# EAGLE library part LT1121-3.3 (library LT1121-3.3)
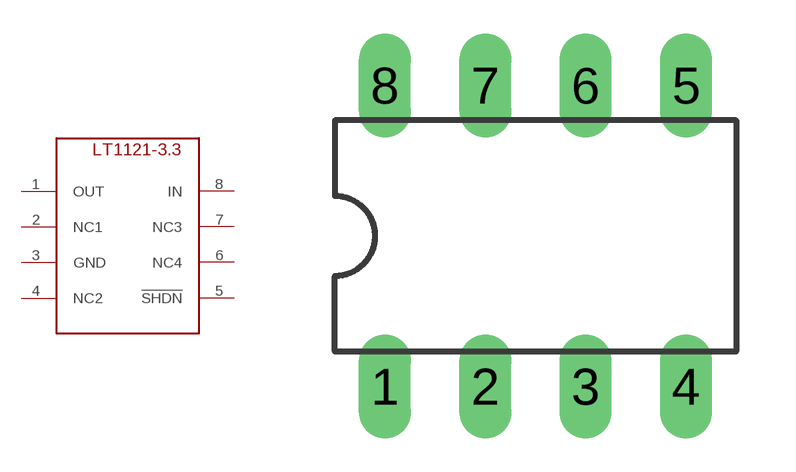
[diagram p0: symbol with the pads of DIL08; footprint DIL08]

Designator prefix -

## LT1121-3.3  [DIL08]
1  OUT
2  NC1
3  GND
4  NC2
5  !SHDN
6  NC4
7  NC3
8  IN

## Footprint DIL08 (pad centres in mm)
Dual In Line Package
drill 0.813 long: 1 -3.81,-3.81; 2 -1.27,-3.81; 3 1.27,-3.81; 4 3.81,-3.81; 5 3.81,3.81; 6 1.27,3.81; 7 -1.27,3.81; 8 -3.81,3.81